# EAGLE library part MCP49X2 (library SquantorIC)
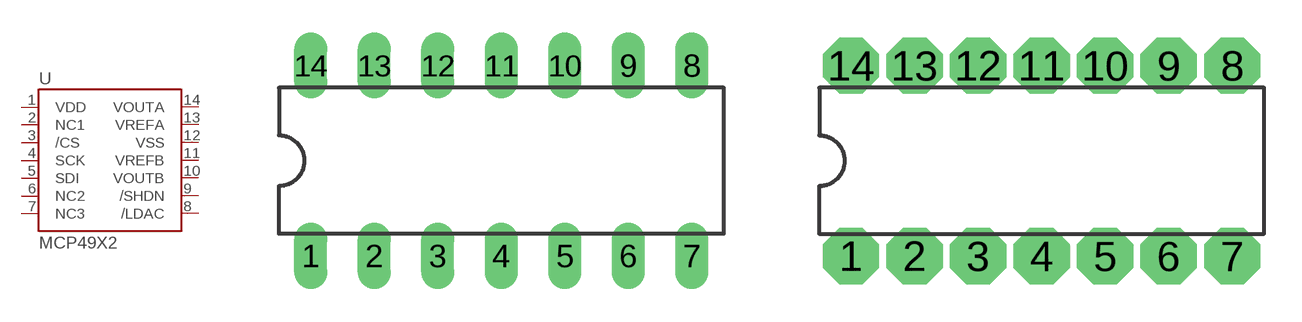
[diagram p10: symbol with the pads of DIL14; footprints DIL14, DIL14_1.5MM]

Designator prefix -

## MCP49X2P  [DIL14]
1  VDD
2  NC1  in
3  /CS  in
4  SCK  pwr
5  SDI
6  NC2
7  NC3
8  /LDAC
9  /SHDN  in
10  VOUTB  out
11  VREFB  pwr
12  VSS
13  VREFA
14  VOUTA

## MCP49X2P_1.5MM  [DIL14_1.5MM]
Pads as for DIL14

## Footprint DIL14 (pad centres in mm)
Dual In Line Package
drill 0.813 long: 1 -7.62,-3.81; 2 -5.08,-3.81; 3 -2.54,-3.81; 4 0,-3.81; 5 2.54,-3.81; 6 5.08,-3.81; 7 7.62,-3.81; 8 7.62,3.81; 9 5.08,3.81; 10 2.54,3.81; 11 0,3.81; 12 -2.54,3.81; 13 -5.08,3.81; 14 -7.62,3.81

## Footprint DIL14_1.5MM (pad centres in mm)
drill 1.5 octagon: 1 -7.62,-3.81; 2 -5.08,-3.81; 3 -2.54,-3.81; 4 0,-3.81; 5 2.54,-3.81; 6 5.08,-3.81; 7 7.62,-3.81; 8 7.62,3.81; 9 5.08,3.81; 10 2.54,3.81; 11 0,3.81; 12 -2.54,3.81; 13 -5.08,3.81; 14 -7.62,3.81